# EAGLE library part KLEMME_1-3 (library e-klemmen)
Klemme 3 Pol.
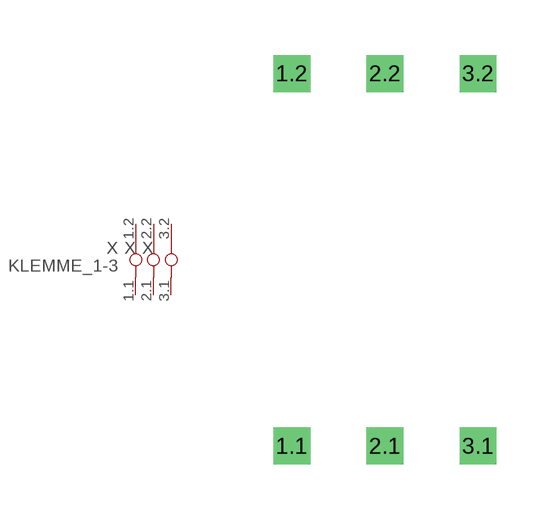
[diagram p13: symbol with the pads of KLEMME_1-3; footprint KLEMME_1-3]

Designator prefix X; gates 1=KLEMME_1-1 2=KLEMME_2 3=KLEMME_3

## KLEMME_1-3  [KLEMME_1-3]
1.1  1:1.1  pas
1.2  1:1.2  pas
2.1  2:2.1  pas
2.2  2:2.2  pas
3.1  3:3.1  pas
3.2  3:3.2  pas

## Footprint KLEMME_1-3 (pad centres in mm)
Dummy
drill 0.5 pad 1 square: 1.1 0,-12.7; 1.2 0,-2.54; 2.1 2.54,-12.7; 2.2 2.54,-2.54; 3.1 5.08,-12.7; 3.2 5.08,-2.54